# Altium footprint library ANT.PcbLib: 1 footprints
Each footprint in its own frame and in the unit in brackets; x right, y up, seen from the top. Pads: shape width x height; smd on the part's side, far side on the other; paste and mask are expansions set on the pad; w line width, h text height; cw(c..) or ccw(c..) is an arc to the next point about the centre after c.
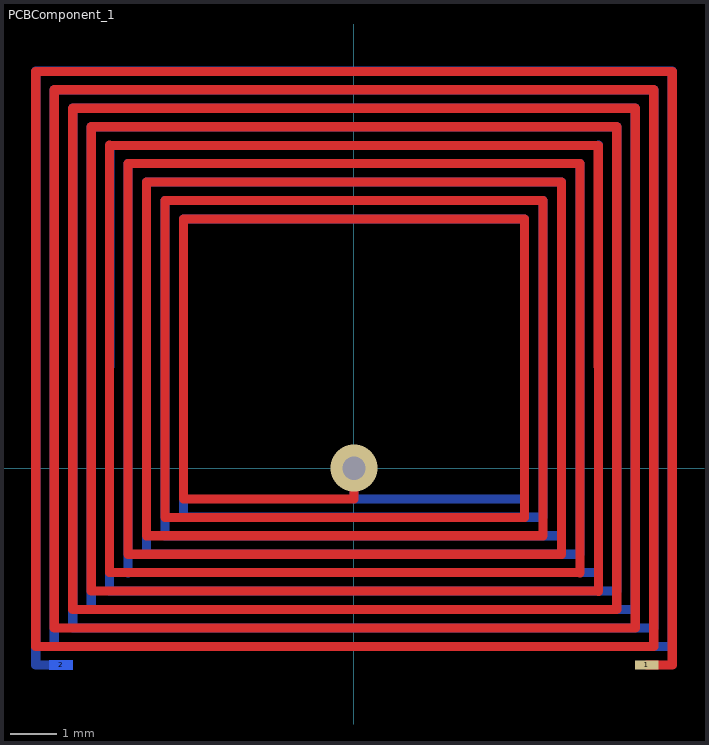
[diagram p0: the footprint, top view; thin cyan lines are the x and y axes]

## PCBComponent_1 [mm]
pads (2):
  rect 0.508x0.2 smd: 1(6.35,-4.27)
  rect 0.508x0.2 smd far side: 2(-6.35,-4.269)
via 0,0 diameter 1.016 hole 0.508
Top Layer:
  lines w0.2: 0,0 0,-0.67 -3.7,-0.668 -3.7,5.402 3.7,5.402 3.7,-1.07 -4.1,-1.068 -4.1,5.802 4.1,5.802 4.1,-1.47 -4.5,-1.468 -4.5,6.202 4.5,6.202 4.5,-1.87 -4.9,-1.868 -4.9,6.602 4.9,6.602 4.9,-2.27 -5.3,-2.268 -5.3,7.002 5.297,6.996 5.3,-2.67 -5.7,-2.668 -5.7,7.402 5.7,7.402 5.7,-3.07 -6.1,-3.068 -6.1,7.802 6.1,7.802 6.1,-3.47 -6.5,-3.468 -6.5,8.202 6.5,8.202 6.5,-3.87 -6.9,-3.868 -6.9,8.602 6.9,8.602 6.9,-4.27 6.35,-4.27
Bottom Layer:
  lines w0.2: -6.35,-4.269 -6.9,-4.269 -6.9,8.603 6.9,8.603 6.9,-3.867 -6.5,-3.869 -6.5,8.203 6.5,8.203 6.5,-3.467 -6.1,-3.469 -6.1,7.803 6.1,7.803 6.1,-3.067 -5.7,-3.069 -5.7,7.403 5.7,7.403 5.7,-2.667 -5.3,-2.669 -5.297,6.997 5.3,7.003 5.3,-2.267 -4.9,-2.269 -4.9,6.603 4.9,6.603 4.9,-1.867 -4.5,-1.869 -4.5,6.203 4.5,6.203 4.5,-1.467 -4.1,-1.469 -4.1,5.803 4.1,5.803 4.1,-1.067 -3.7,-1.069 -3.7,5.403 3.7,5.403 3.7,-0.667 0,-0.669 ; -0.002,-0.667 -0.002,0